# EAGLE library part PCF8583 (library Philips-semiconductors2)
Clock/calendar with 240 x 8-bit RAM
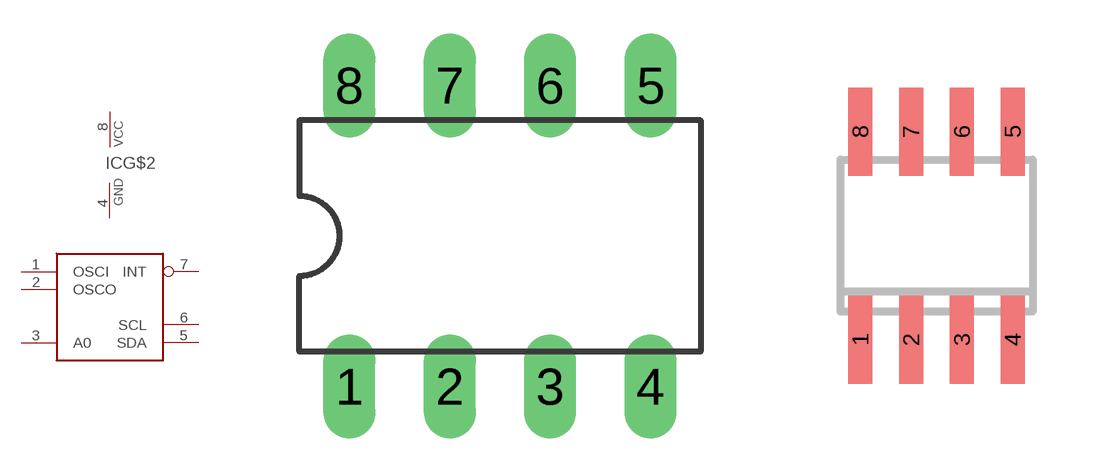
[diagram p60: symbol with the pads of DIL08; footprints DIL08, SO08]

Designator prefix IC; gates G$1=PCF8583 G$2=PWRN

## PCF8583P  [DIL08]
1  G$1:OSCI  in
2  G$1:OSCO  out
3  G$1:A0  in
4  G$2:GND  pwr
5  G$1:SDA
6  G$1:SCL  in
7  G$1:INT  out
8  G$2:VCC  pwr

## PCF8583T  [SO08]
Pads as for DIL08

## PCF8583PCF8583BS  [SOT662]
2  G$1:OSCI  in
3  G$1:OSCO  out
4  G$1:A0  in
5  G$2:VCC  pwr
12  G$1:SDA
13  G$1:SCL  in
14  G$1:INT  out
15  G$2:GND  pwr

## Footprint DIL08 (pad centres in mm)
drill 0.813 long: 1 -3.81,-3.81; 2 -1.27,-3.81; 3 1.27,-3.81; 4 3.81,-3.81; 5 3.81,3.81; 6 1.27,3.81; 7 -1.27,3.81; 8 -3.81,3.81

## Footprint SO08 (pad centres in mm)
smd 0.6 x 2.2: 1 -1.905,-2.6; 2 -0.635,-2.6; 3 0.635,-2.6; 4 1.905,-2.6; 5 1.905,2.6; 6 0.635,2.6; 7 -0.635,2.6; 8 -1.905,2.6

## Footprint SOT662 (pad centres in mm)
SOT662 HVQFN20: plastic thermal enhanced very thin quad flat package; no leads; 20 terminals; body 5 x 5 x 0.85 mm JEDEC: MO-220 IEC: -- JEITA: --
smd 1.1 x 0.3: 1 -2.45,1.3; 2 -2.45,0.65; 3 -2.45,0; 4 -2.45,-0.65; 5 -2.45,-1.3; 11 2.45,-1.3; 12 2.45,-0.65; 13 2.45,0; 14 2.45,0.65; 15 2.45,1.3
smd 0.3 x 1.1: 6 -1.3,-2.45; 7 -0.65,-2.45; 8 0,-2.45; 9 0.65,-2.45; 10 1.3,-2.45; 16 1.3,2.45; 17 0.65,2.45; 18 0,2.45; 19 -0.65,2.45; 20 -1.3,2.45
smd 3 x 3: CP 0,0